# Altium schematic symbol library LM27762DSS.SchLib: 1 symbol
Pins are listed as number, name and electrical type; pins without a type are passive.

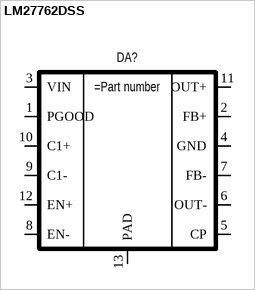
[diagram p0: symbol LM27762DSS]

## LM27762DSS
designator DA?
Low-Noise Positive and Negative Output Integrated Charge Pump Plus LDO
pins: 1 PGOOD, 2 FB+, 3 VIN, 4 GND, 5 CP, 6 OUT-, 7 FB-, 8 EN-, 9 C1-, 10 C1+, 11 OUT+, 12 EN+, 13 PAD